# EAGLE library part SN74AHCT125 (library texas-instruments)
IC BUF NON-INVERT 5.5V
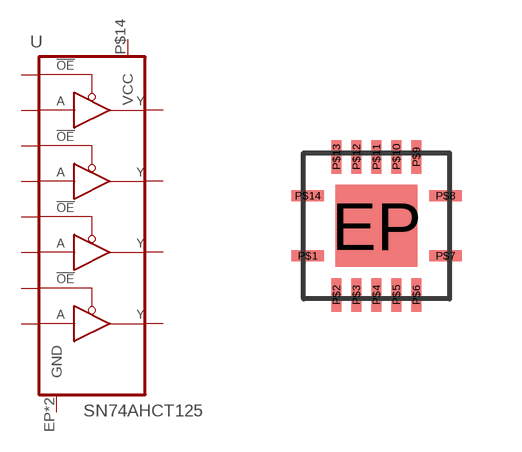
[diagram p44: symbol with the pads of VQFN-14-RGY; footprint VQFN-14-RGY]

Designator prefix U

## SN74AHCT125RGYR (DIGIKEY: 296-13910-1-ND; MFR: TEXAS INSTRUMENTS; MPN: SN74AHCT125RGYR; P1I: o)  [VQFN-14-RGY]
EP  GND  pwr
P$1  OE#1  in
P$2  A1  in
P$3  Y1  out
P$4  OE#2  in
P$5  A2  in
P$6  Y2  out
P$7  GND  pwr
P$8  Y3  out
P$9  A3  in
P$10  OE#3  in
P$11  Y4  out
P$12  A4  in
P$13  OE#4  in
P$14  VCC  pwr

## Footprint VQFN-14-RGY (pad centres in mm)
smd 2.05 x 2.05: EP 0,0
smd 0.85 x 0.28: P$1 -1.725,-0.75; P$7 1.725,-0.75; P$8 1.725,0.75; P$14 -1.725,0.75
smd 0.28 x 0.85: P$2 -1,-1.725; P$3 -0.5,-1.725; P$4 0,-1.725; P$5 0.5,-1.725; P$6 1,-1.725; P$9 1,1.725; P$10 0.5,1.725; P$11 0,1.725; P$12 -0.5,1.725; P$13 -1,1.725